# Altium integrated library LMZM23600V5SILx.IntLib: 1 symbol
Pins are listed as number, name and electrical type; pins without a type are passive.

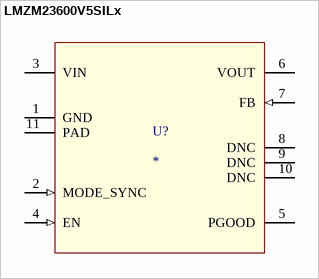
[diagram p0: symbol LMZM23600V5SILx]

## LMZM23600V5SILx
designator U?
PWR MGMT SWITCHING REGULATOR / Manufacturer PN: LMZM23600V5SILR
footprint LMZM23600V5SILx
pins: 1 GND (power), 2 MODE_SYNC (in), 3 VIN (power), 4 EN (in), 5 PGOOD (oc), 6 VOUT (power), 7 FB (in), 8 DNC, 9 DNC, 10 DNC, 11 PAD (power)